# Altium schematic symbol library TLX9000.Schlib: 1 symbol
Pins are listed as number, name and electrical type; pins without a type are passive.

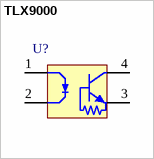
[diagram p0: symbol TLX9000]

## TLX9000
designator U?
Photocoupler
pins: 1, 2, 3, 4